# Altium footprint library PCBlib.PcbLib: 54 footprints (part 2 of 4)
Each footprint in its own frame and in the unit in brackets; x right, y up, seen from the top. Pads: shape width x height; smd on the part's side, far side on the other; paste and mask are expansions set on the pad; w line width, h text height; cw(c..) or ccw(c..) is an arc to the next point about the centre after c.
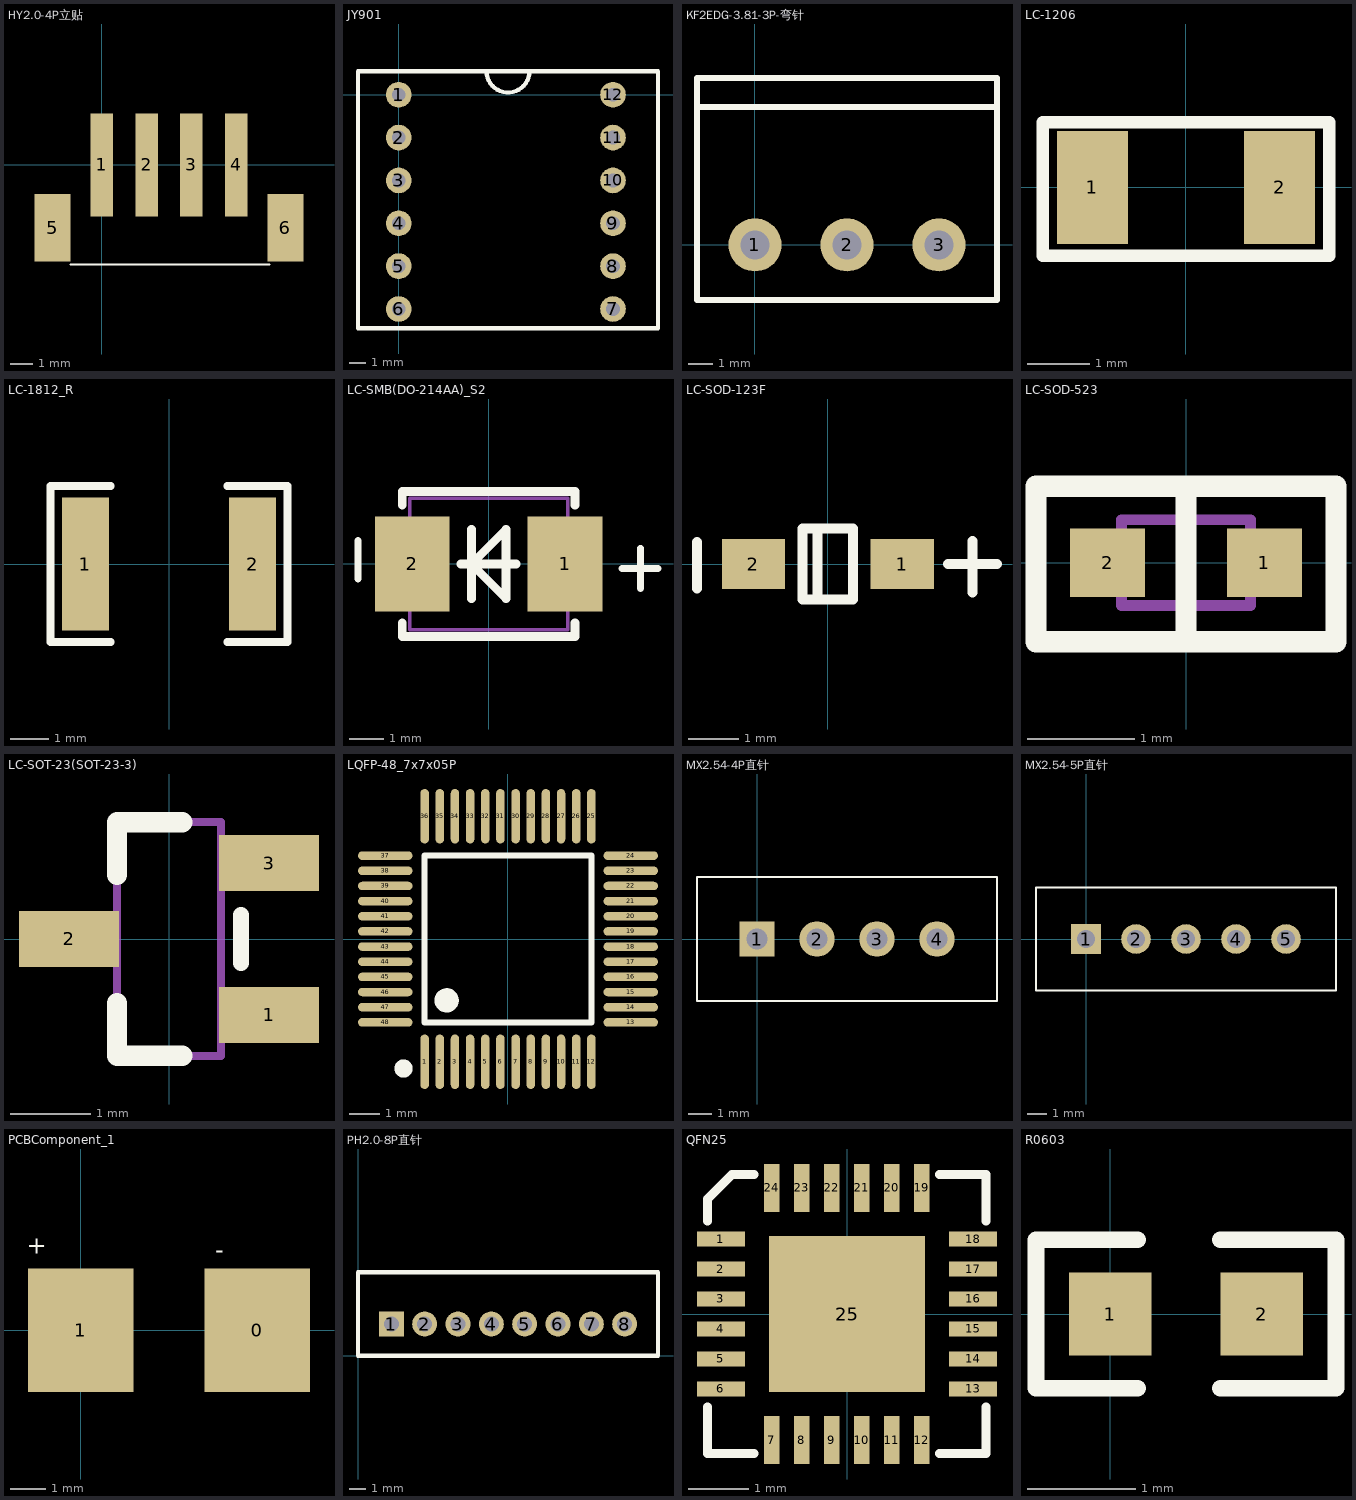
[diagram p1: the footprints below, top view; thin cyan lines are the x and y axes]

## HY2.0-4P立贴 [mm]
pads (6):
  rect 1x4.6 smd: 1(0,0) 2(2,0) 3(4,0) 4(6,0)
  rect 1.6x3 smd: 5(-2.2,-2.8) 6(8.2,-2.8)
Top Overlay:
  lines w0.1: -1.397,-4.445 7.493,-4.445

## JY901 [mil]
pads (12):
  round 60 hole 32: 1(0,0) 2(0,-100) 3(0,-200) 4(0,-300) 5(0,-400) 6(0,-500) 7(500,-500) 8(500,-400) 9(500,-300) 10(500,-200) 11(500,-100) 12(500,0)
Top Overlay:
  lines w10: 205,55 ccw(c255,55) 305,55 ; -95,-545 -95,55 605,55 605,-545 -95,-545

## KF2EDG-3.81-3P-弯针 [mm]
pads (3):
  round 2.2 hole 1.2: 1(0,0) 2(3.81,0) 3(7.62,0)
Top Overlay:
  lines w0.254: -2.4,5.715 9.893,5.715 ; -2.4,-2.286 0,-2.286 7.62,-2.286 10.02,-2.286 10.02,6.914 -2.4,6.914 -2.4,-2.286

## LC-1206 [mm]
pads (2):
  rect 1.13x1.8 smd: 1(-1.49,0) 2(1.49,0)
Top Overlay:
  lines w0.2: -2.286,-1.092 2.286,-1.092 2.286,1.041 -2.286,1.041 -2.286,-1.092

## LC-1812_R [mm]
pads (2):
  rect 1.2x3.42 smd: 1(-2.15,0) 2(2.15,0)
Top Overlay:
  lines w0.2: -1.5,-2.01 -3.05,-2.01 -3.05,2.01 -1.5,2.01 ; 1.5,-2.01 3.05,-2.01 3.05,2.01 1.5,2.01
3D body "R1812.STEP": height 0.59, standoff -0.01, extent -2.251,-1.6 2.249,1.6

## LC-SMB(DO-214AA)_S2 [mm]
pads (2):
  rect 2.159x2.743 smd: 1(2.21,0) 2(-2.21,0)
Top Overlay:
  lines w0.2: -3.785,-0.432 -3.785,0.686 ; 3.861,-0.127 4.902,-0.127 ; 4.394,-0.711 4.394,0.457
  lines w0.254: -2.5,-1.7 -2.5,-2.1 2.5,-2.1 2.5,-1.7 ; -2.5,1.7 -2.5,2.1 2.5,2.1 2.5,1.7 ; -0.8,0 0.8,0 ; -0.5,-1 -0.5,1 ; -0.5,0 0.5,-1 0.5,1 -0.5,0
Mechanical 13:
  lines w0.1: -2.285,-1.905 -2.285,1.905 2.285,1.905 2.285,-1.905 -2.285,-1.905

## LC-SOD-123F [mm]
pads (2):
  rect 1.25x1 smd: 1(1.475,0) 2(-1.475,0)
Top Overlay:
  lines w0.2: -2.591,-0.483 -2.591,0.432 ; -0.2,-0.7 -0.2,0.7 ; 2.388,0 3.353,0 ; 2.87,-0.559 2.87,0.457 ; -0.5,-0.7 -0.5,0.7 0.5,0.7 0.5,-0.7 -0.5,-0.7
3D body "SOD123F.STEP": height 1.2, standoff -0.01, extent -1.9,-0.849 1.85,0.85

## LC-SOD-523 [mm]
pads (2):
  rect 0.7x0.64 smd: 1(0.73,0) 2(-0.73,0)
Top Overlay:
  lines w0.2: 0,-0.711 0,0.698 ; -1.397,-0.737 1.397,-0.737 1.397,0.711 -1.397,0.711 -1.397,-0.737
Mechanical 13:
  lines w0.1: -0.6,-0.4 0.6,-0.4 0.6,0.4 -0.6,0.4 -0.6,-0.4
3D body "SOD523.STEP": height 0.7, standoff 0, extent -0.8,-0.399 0.8,0.399

## LC-SOT-23(SOT-23-3) [mm]
pads (3):
  rect 1.25x0.7 smd: 1(1.25,-0.95) 2(-1.25,0) 3(1.25,0.95)
Top Overlay:
  lines w0.2: 0.9,-0.3 0.9,0.3
  lines w0.254: -0.65,-0.8 -0.65,-1.46 0.165,-1.46 ; 0.165,1.46 -0.65,1.46 ; -0.65,0.8 -0.65,1.46 ; -0.65,0.8 -0.65,1.46 ; -0.65,0.8 -0.65,1.46
Mechanical 13:
  lines w0.1: -0.65,-1.46 -0.65,1.46 ; -0.65,-1.46 0.65,-1.46 ; -0.65,-1.46 0.65,-1.46 ; -0.65,-1.46 -0.65,1.46 ; -0.65,-1.46 0.65,-1.46 ; -0.65,-1.46 -0.65,1.46 ; -0.65,1.46 0.65,1.46 ; -0.65,1.46 0.65,1.46 ; -0.65,1.46 0.65,1.46 ; 0.65,-1.46 0.65,1.46 ; 0.65,-1.46 0.65,1.46 ; 0.65,-1.46 0.65,1.46
3D body "SOT-23.step": height 1.3, standoff 0, extent -1.5,-1.5 1.5,1.5

## LQFP-48_7x7x05P [mm]
pads (48):
  oval 0.28x1.8 smd mask+0.051: 1(-2.75,-4.05) 2(-2.25,-4.05) 3(-1.75,-4.05) 4(-1.25,-4.05) 5(-0.75,-4.05) 6(-0.25,-4.05) 7(0.25,-4.05) 8(0.75,-4.05) 9(1.25,-4.05) 10(1.75,-4.05) 11(2.25,-4.05) 12(2.75,-4.05) 25(2.75,4.05) 26(2.25,4.05) 27(1.75,4.05) 28(1.25,4.05) 29(0.75,4.05) 30(0.25,4.05) 31(-0.25,4.05) 32(-0.75,4.05) 33(-1.25,4.05) 34(-1.75,4.05) 35(-2.25,4.05) 36(-2.75,4.05)
  oval 1.8x0.28 smd mask+0.051: 13(4.05,-2.75) 14(4.05,-2.25) 15(4.05,-1.75) 16(4.05,-1.25) 17(4.05,-0.75) 18(4.05,-0.25) 19(4.05,0.25) 20(4.05,0.75) 21(4.05,1.25) 22(4.05,1.75) 23(4.05,2.25) 24(4.05,2.75) 37(-4.05,2.75) 38(-4.05,2.25) 39(-4.05,1.75) 40(-4.05,1.25) 41(-4.05,0.75) 42(-4.05,0.25) 43(-4.05,-0.25) 44(-4.05,-0.75) 45(-4.05,-1.25) 46(-4.05,-1.75) 47(-4.05,-2.25) 48(-4.05,-2.75)
Top Overlay:
  circle w0.4: c-2.025,-2.025 r0.2
  circle w0.3: c-3.45,-4.275 r0.15
  lines w0.2: -2.75,-2.75 -2.75,2.75 2.75,2.75 2.75,-2.75 -2.75,-2.75
3D body "LQFP48-7x7.STEP": height 1.45, standoff 0, extent -4.503,-4.503 4.503,4.503

## MX2.54-4P直针 [mm]
pads (4):
  rect 1.5x1.5 hole 0.9: 1(0,0)
  round 1.5 hole 0.9: 2(2.54,0) 3(5.08,0) 4(7.62,0)
Top Overlay:
  lines w0.1: -2.54,-2.625 10.16,-2.625 10.16,2.625 -2.54,2.625 -2.54,-2.625

## MX2.54-5P直针 [mm]
pads (5):
  rect 1.5x1.5 hole 0.9: 1(0,0)
  round 1.5 hole 0.9: 2(2.54,0) 3(5.08,0) 4(7.62,0) 5(10.16,0)
Top Overlay:
  lines w0.1: -2.54,-2.625 -2.54,2.625 12.7,2.625 12.7,-2.625 -2.54,-2.625

## PCBComponent_1 [mm]
pads (2):
  rect 3x3.5 smd: 0(5,0) 1(0,0)
Top Overlay:
  text "-" at 3.81,2.032 h0.5
  text "+" at -1.524,2.159 h0.5

## PH2.0-8P直针 [mm]
pads (8):
  rect 1.5x1.5 hole 0.9: 1(2,1.9)
  round 1.5 hole 0.9: 2(4,1.9) 3(6,1.9) 4(8,1.9) 5(10,1.9) 6(12,1.9) 7(14,1.9) 8(16,1.9)
Top Overlay:
  lines w0.254: 0,0 18,0 18,5 0,5 0,0

## QFN25 [mm]
pads (25):
  rect 0.8x0.254 smd: 1(-2.101,1.25) 2(-2.101,0.75) 3(-2.101,0.25) 4(-2.101,-0.25) 5(-2.101,-0.75) 6(-2.101,-1.25) 13(2.101,-1.25) 14(2.101,-0.75) 15(2.101,-0.25) 16(2.101,0.25) 17(2.101,0.75) 18(2.101,1.25)
  rect 0.254x0.8 smd: 7(-1.255,-2.101) 8(-0.755,-2.101) 9(-0.255,-2.101) 10(0.245,-2.101) 11(0.745,-2.101) 12(1.245,-2.101) 19(1.245,2.101) 20(0.745,2.101) 21(0.245,2.101) 22(-0.255,2.101) 23(-0.755,2.101) 24(-1.255,2.101)
  rect 2.6x2.6 smd: 25(0,0)
Top Overlay:
  lines w0.15: -2.33,-1.55 -2.33,-2.325 -1.555,-2.325 ; -2.33,1.55 -2.33,1.917 -1.921,2.325 -1.555,2.325 ; 1.545,-2.325 2.32,-2.325 2.32,-1.55 ; 1.545,2.325 2.32,2.325 2.32,1.55
3D body "QFN24.step": height 0.9, standoff 0, extent -2.002,-2.002 2.002,2.002

## R0603 [mil]
pads (2):
  rect 30x30 smd: 1(0,0) 2(55,0)
Top Overlay:
  lines w6: 10,-27 -27,-27 -27,27 10,27 ; 40,-27 82,-27 82,27 40,27
3D body "User Library-RESC1608X05N.step": height 17.76, standoff 0, extent -3.51,-17.73 57.51,15.73